# Altium integrated library SIM.IntLib: 2 symbols
Pins are listed as number, name and electrical type; pins without a type are passive.

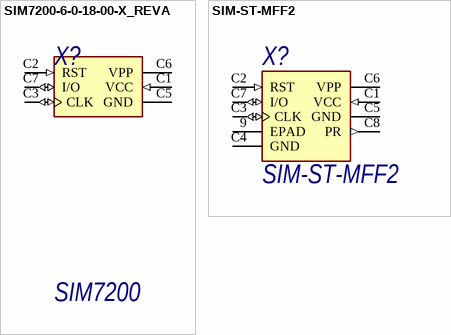
[diagram p0: symbols SIM7200-6-0-18-00-X_REVA to SIM-ST-MFF2]

## SIM7200-6-0-18-00-X_REVA
designator X?, comment SIM7200
Разъём MICROSIM; MF: Global Connector Technology; MP: SIM7200-6-0-18-00-A; ComponentDescription: Разъём MICROSIM, SIM7200; SnapEDA_Link: https://www.snapeda.com/parts/SIM7200-6-0-18-00-A/Global%20Connector%20Technology/view-part/812977/?ref=snap; Package: None; Price: None; Value: *; Availability: Unavailable; ComponentTypе: Разъём MICROSIM
footprint GCT_SIM7200-6-0-18-00-X_REVA
pins: C1 VCC (in), C2 RST (in), C3 CLK (io), C5 GND (power), C6 VPP (power), C7 I/O (io)
1 alternate drawing of the same symbol

## SIM-ST-MFF2
designator X?
SIM-карта MFF2; MF: Hologram, Inc.; ComponentDescription: SIM-карта MFF2, SIM-ST-MFF2; SnapEDA_Link: https://www.snapeda.com/parts/SIM-ST-MFF2/Hologram%2C%20Inc./view-part/3075908/?ref=snap; MP: SIM-ST-MFF2; Availability: Unavailable; Price: None; Value: *; Package: None; ComponentTypе: SIM-карта MFF2
footprint PSON127P500X600X82-9N; pin to pad C1>8 C2>7 C3>6 C5>1 C6>2 C7>3 С4>5 С8>4
pins: 9 EPAD, C1 VCC (in), C2 RST (in), C3 CLK (io), C5 GND (power), C6 VPP (power), C7 I/O (io), С4 GND (power), С8 PR (out)